# EAGLE library part DS_HCHO (library Plantower-DS-HCHO)
Plantower DS-HCHO formaldehyde sensor (2mm pitch pins) http://www.plantower.com/en/content/?105.html Designed by Akram Ali https://github.com/AKstudios August 2018
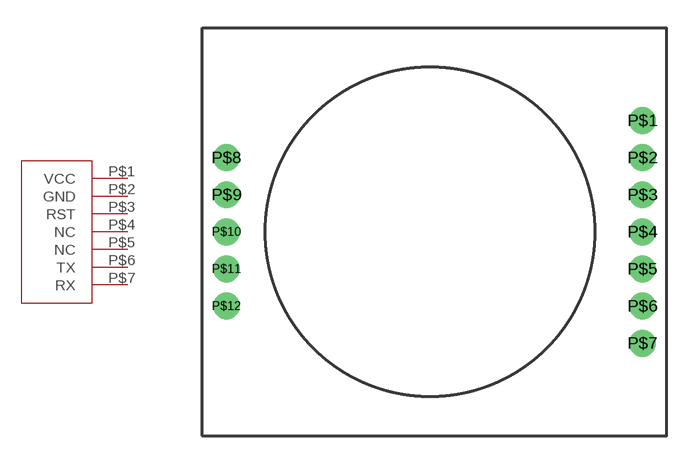
[diagram p0: symbol with the pads of DS_HCHO; footprint DS_HCHO]

Designator prefix -

## DS_HCHO  [DS_HCHO]
P$1  VCC
P$2  GND
P$3  RST
P$4  NC
P$5  NC
P$6  TX
P$7  RX

## Footprint DS_HCHO (pad centres in mm)
drill 0.85 pad 1.45: P$1 23.7,17; P$2 23.7,15; P$3 23.7,13; P$4 23.7,11; P$5 23.7,9; P$6 23.7,7; P$7 23.7,5; P$8 1.3,15; P$9 1.3,13; P$10 1.3,11; P$11 1.3,9; P$12 1.3,7